# EAGLE library part ISL9217 (library ISL9216,9217)
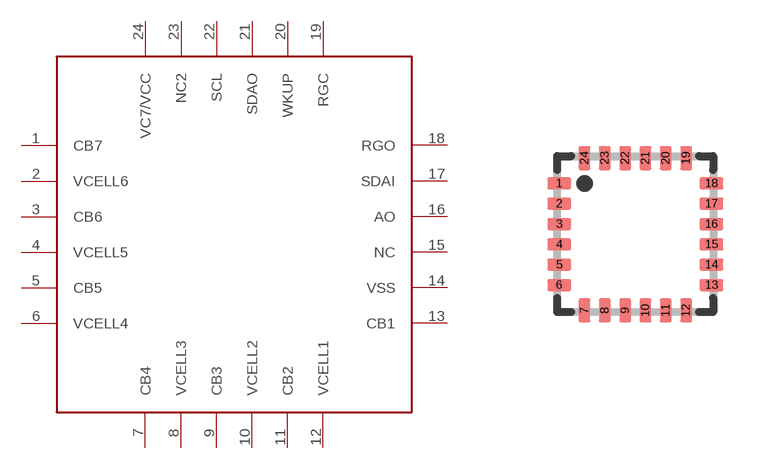
[diagram p1: symbol with the pads of ISL9217; footprint ISL9217]

Designator prefix -

## ISL9217  [ISL9217]
1  CB7
2  VCELL6
3  CB6
4  VCELL5
5  CB5
6  VCELL4
7  CB4
8  VCELL3
9  CB3
10  VCELL2
11  CB2
12  VCELL1
13  CB1
14  VSS
15  NC
16  AO
17  SDAI
18  RGO
19  RGC
20  WKUP
21  SDAO
22  SCL
23  NC2
24  VC7/VCC

## Footprint ISL9217 (pad centres in mm)
smd 0.6 x 0.3: 1 -1.915,1.29; 2 -1.915,0.782; 3 -1.915,0.274; 4 -1.915,-0.234; 5 -1.915,-0.742; 6 -1.915,-1.25; 13 1.895,-1.25; 14 1.895,-0.742; 15 1.895,-0.234; 16 1.895,0.274; 17 1.895,0.782; 18 1.895,1.29
smd 0.3 x 0.6: 7 -1.28,-1.885; 8 -0.772,-1.885; 9 -0.264,-1.885; 10 0.244,-1.885; 11 0.752,-1.885; 12 1.26,-1.885; 19 1.26,1.925; 20 0.752,1.925; 21 0.244,1.925; 22 -0.264,1.925; 23 -0.772,1.925; 24 -1.28,1.925